# EAGLE library part SN74ACT14 (library Virulent_HW)
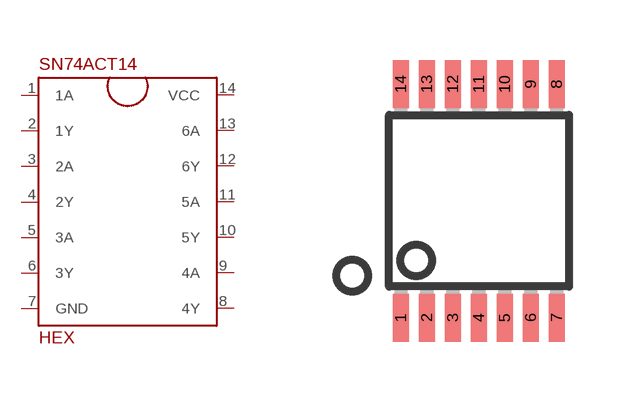
[diagram p27: symbol with the pads of TSSOP14; footprint TSSOP14]

Designator prefix HEX

## SN74ACT14PW  [TSSOP14]
1  1A
2  1Y
3  2A
4  2Y
5  3A
6  3Y
7  GND  pwr
8  4Y
9  4A
10  5Y
11  5A
12  6Y
13  6A
14  VCC  pwr

## Footprint TSSOP14 (pad centres in mm)
smd 0.4 x 1.2: 1 -2.275,-2.925; 2 -1.625,-2.925; 3 -0.975,-2.925; 4 -0.325,-2.925; 5 0.325,-2.925; 6 0.975,-2.925; 7 1.625,-2.925; 8 1.625,2.925; 9 0.975,2.925; 10 0.325,2.925; 11 -0.325,2.925; 12 -0.975,2.925; 13 -1.625,2.925; 14 -2.275,2.925